# Altium schematic symbol library Диоды.SchLib: 10 symbols
Pins are listed as number, name and electrical type; pins without a type are passive.

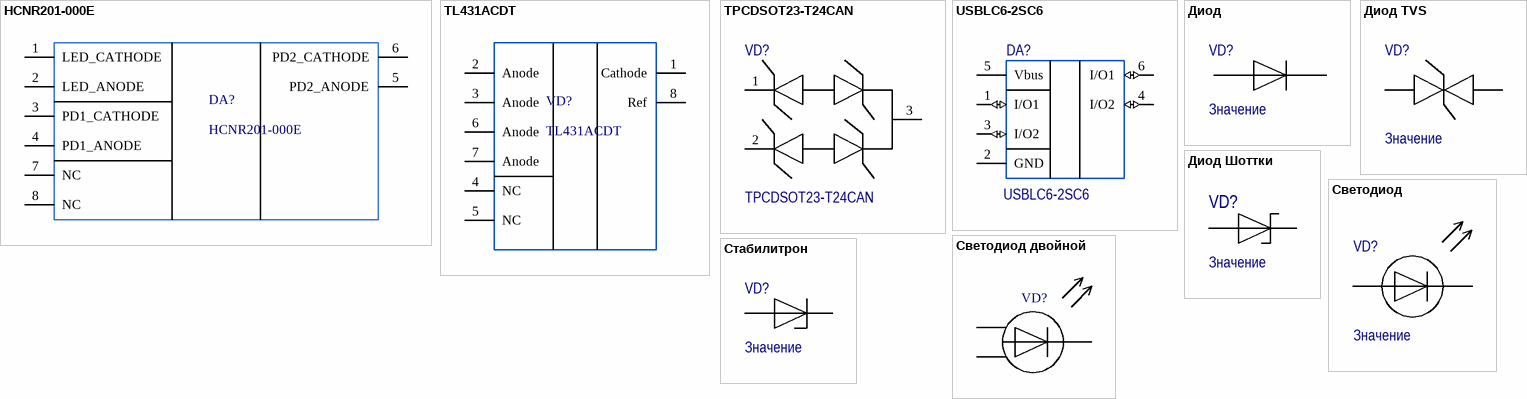
[diagram p0: symbols HCNR201-000E to Стабилитрон]

## HCNR201-000E
designator DA?
Part: C9066; Value: HCNR201-000E; Alternative part: HCNR201-000E; ComponentLink1Description: Link; ComponentLink1URL: https://jlcpcb.com/parts/componentSearch?isSearch=true&searchTxt=HCNR201-000E
footprint DIP8 - duplicate
pins: 1 LED_CATHODE "POWER", 2 LED_ANODE "POWER", 3 PD1_CATHODE "POWER", 4 PD1_ANODE "POWER", 5 PD2_ANODE "POWER", 6 PD2_CATHODE "POWER", 7 NC "POWER", 8 NC "POWER"

## TL431ACDT
designator VD?
2.495V - ±1% SOIC-8_150mil Voltage References ROHS; Alternative part: C6969; Value: TL431ACDT; Part: TL431ACDT
pins: 1 Cathode "POWER", 2 Anode "POWER", 3 Anode "POWER", 4 NC "INPUT", 5 NC "INPUT", 6 Anode "POWER", 7 Anode "POWER", 8 Ref "OUTPUT"

## TPCDSOT23-T24CAN
designator VD?
ESD Protection Devices ROHS; Value: TPCDSOT23-T24CAN; ComponentLink1Description: Link; ComponentLink1URL: *; ComponentLink2Description: Alternative link; ComponentLink2URL: *
footprint SOT-23 (SOT23, 3-Leads, Body 2,90x2,30mm, Pitch 0,95mm, IPC Medium Density)
pins: 1 PWR1 "POWER", 2 PWR2 "POWER", 3 GND "POWER"

## USBLC6-2SC6
designator DA?
Part: C2827654; Value: USBLC6-2SC6; Alternative part: USBLC6-2SC6; ComponentLink1Description: Link; ComponentLink1URL: *
footprint SOT-23-6
pins: 1 I/O1 (io) "INPUT", 2 GND "POWER", 3 I/O2 (io) "INPUT", 4 I/O2 (io) "OUTPUT", 5 Vbus "POWER", 6 I/O1 (io) "OUTPUT"

## Диод
designator VD?, comment Значение
Diode; Value: Значение; Part: *; Alternative part: *
footprint DO-213AB
footprint SOD80
footprint do-214
pins: 1, 2

## Диод TVS
designator VD?, comment Значение
Диод TVS; Value: Значение; Part: *; Alternative part: *; ComponentLink1Description: New link; ComponentLink1URL: *
footprint DO-213AB
footprint SOD80
footprint DO-214AC
footprint SMA (Molded Diode, 2-Leads, Body 4,25x2,50mm, IPC Medium Density)
pins: 1 1 , 2

## Диод Шоттки
designator VD?, comment Значение
Schottky diode; Value: Значение; Part: *; Alternative part: *; ComponentLink1Description: Link; ComponentLink1URL: *; ComponentLink2Description: Alternative link; ComponentLink2URL: *
footprint DO-213AB
footprint SOD80
footprint do-214
pins: 1, 2

## Светодиод
designator VD?, comment Значение
Value: Значение; Part: *; Alternative part: *; ComponentLink1Description: Link; ComponentLink1URL: *; ComponentLink2Description: Alternative link; ComponentLink2URL: *
pins: 1 1 , 2

## Светодиод двойной
designator VD?, comment Значение  (value not drawn)
Value: Значение; Part: *; Alternative part: *
pins: 1 1 , 2, 3

## Стабилитрон
designator VD?, comment Значение
Value: Значение; Part: *; Alternative part: *
footprint SOD80
footprint DO-214AA
pins: 1 1 , 2